# Altium integrated library TI Interface Line Transceiver.IntLib: 631 symbols (part 12 of 17)
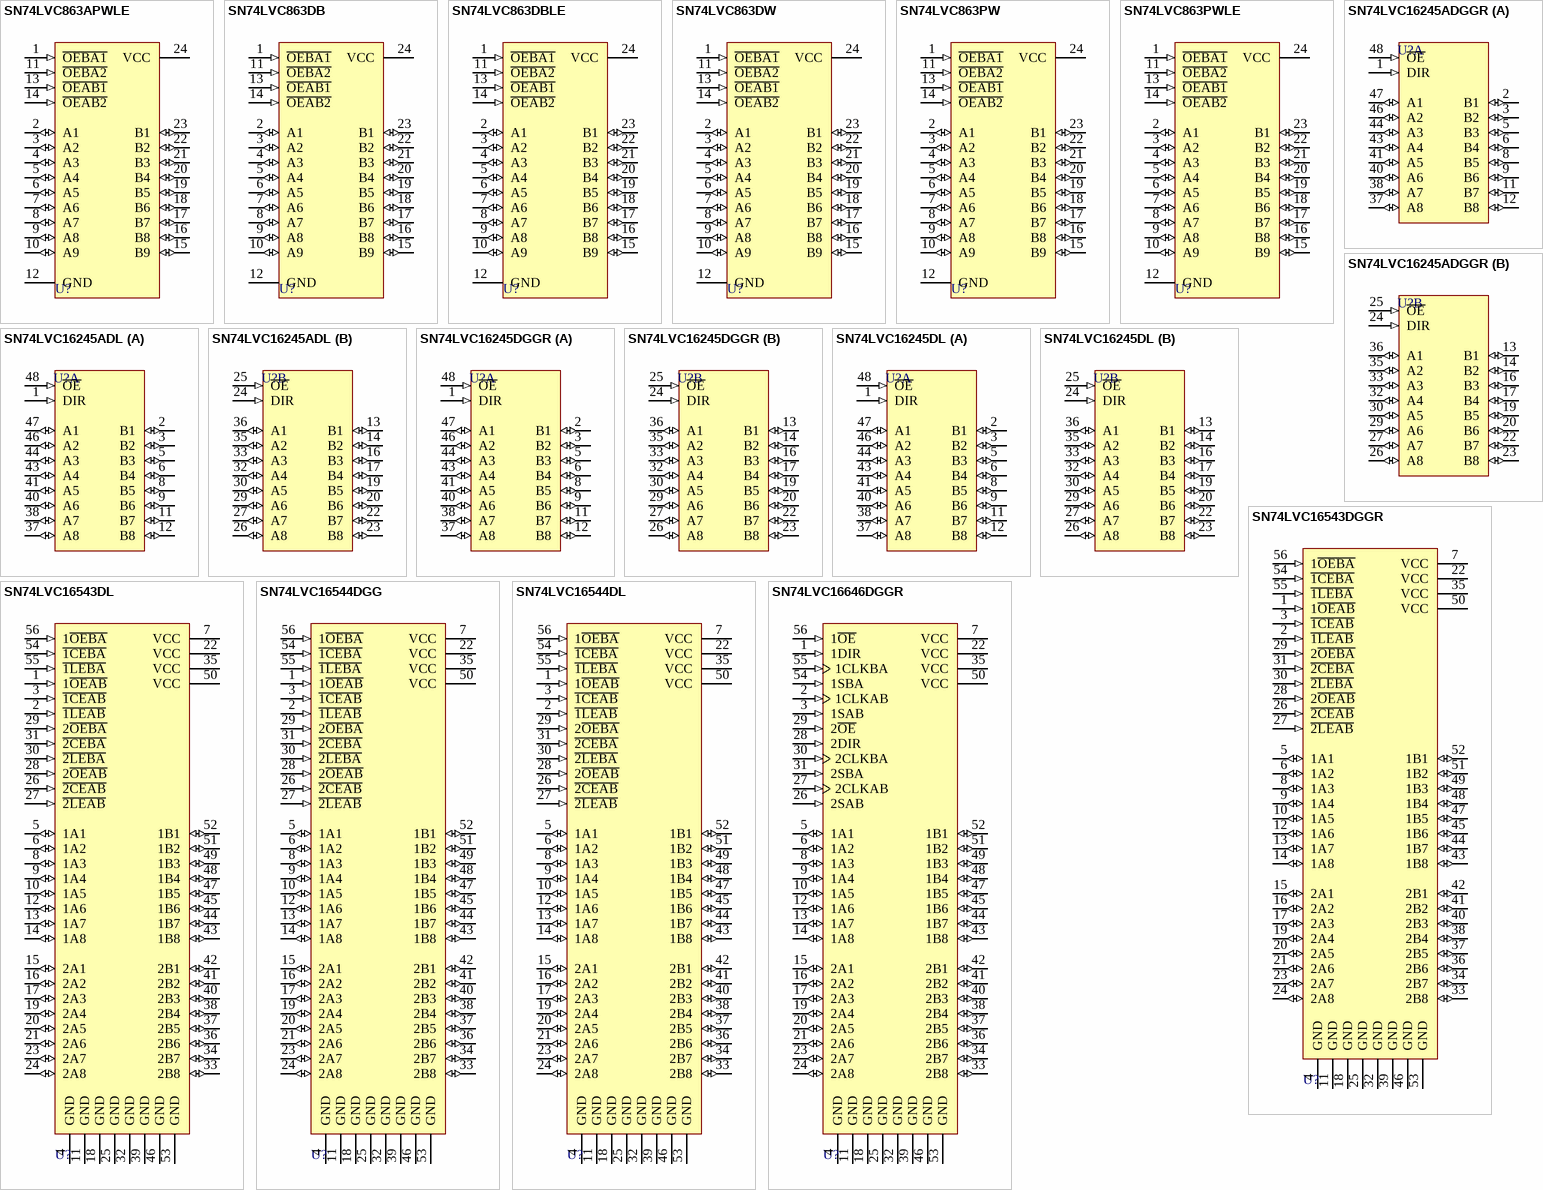
[diagram p50: symbols SN74LVC863APWLE to SN74LVC16646DGGR]

## SN74LVC16245ADGGR
designator U?
16-Bit Bus Transceiver with 3-State Outputs; Published: 8-Jun-2000; LatestRevisionDate: 04-Mar-2005; LatestRevisionNote: Stylized 3D Model Added.; DatasheetVersion: Jun-1998; PackageVersion: Jan-1998; PackageReference: DGG048; Publisher: Altium Limited; PackageDescription: Shrink Small Outline; 48 Leads; Body Width 6.1 mm; Pitch 0.5 mm; ComponentLink1Description: Manufacturer Link; ComponentLink1URL: http://www.ti.com/; ComponentLink2Description: Datasheet; ComponentLink2URL: http://www-s.ti.com/sc/ds/sn74lvc16245a.pdf
footprint DGG048 (Shrink Small Outline; 48 Leads; Body Width 6.1 mm; Pitch 0.5 mm)
3D model DGG048 (Shrink Small Outline; 48 Leads; Body Width 6.1 mm; Pitch 0.5 mm)
signal-integrity model SN74LVC16245ADGGR
pins on every part: 4 GND (power) hidden to GND, 7 VCC (power) hidden to VCC, 10 GND (power) hidden to GND, 15 GND (power) hidden to GND, 18 VCC (power) hidden to VCC, 21 GND (power) hidden to GND, 28 GND (power) hidden to GND, 31 VCC (power) hidden to VCC, 34 GND (power) hidden to GND, 39 GND (power) hidden to GND, 42 VCC (power) hidden to VCC, 45 GND (power) hidden to GND
part A pins: 1 DIR (in), 2 B1 (io), 3 B2 (io), 5 B3 (io), 6 B4 (io), 8 B5 (io), 9 B6 (io), 11 B7 (io), 12 B8 (io), 37 A8 (io), 38 A7 (io), 40 A6 (io), 41 A5 (io), 43 A4 (io), 44 A3 (io), 46 A2 (io), 47 A1 (io), 48 ~{OE} (in)
part B pins: 13 B1 (io), 14 B2 (io), 16 B3 (io), 17 B4 (io), 19 B5 (io), 20 B6 (io), 22 B7 (io), 23 B8 (io), 24 DIR (in), 25 ~{OE} (in), 26 A8 (io), 27 A7 (io), 29 A6 (io), 30 A5 (io), 32 A4 (io), 33 A3 (io), 35 A2 (io), 36 A1 (io)

## SN74LVC16245ADL
designator U?
16-Bit Bus Transceiver with 3-State Outputs; Published: 8-Jun-2000; LatestRevisionDate: 04-Mar-2005; LatestRevisionNote: Stylized 3D Model Added.; DatasheetVersion: Jun-1998; PackageVersion: Dec-2001; PackageReference: DL048; Publisher: Altium Limited; PackageDescription: SSOP; 48 Leads; Body Width 7.5 mm; Pitch 0.635 mm; Code_JEDEC: MO-118-AA; Code_IPC: SSO48; ComponentLink1Description: Manufacturer Link; ComponentLink1URL: http://www.ti.com/; ComponentLink2Description: Datasheet; ComponentLink2URL: http://www-s.ti.com/sc/ds/sn74lvc16245a.pdf
footprint DL048 (SSOP; 48 Leads; Body Width 7.5 mm; Pitch 0.635 mm)
3D model DL048 (SSOP; 48 Leads; Body Width 7.5 mm; Pitch 0.635 mm)
signal-integrity model SN74LVC16245ADL
pins on every part: 4 GND (power) hidden to GND, 7 VCC (power) hidden to VCC, 10 GND (power) hidden to GND, 15 GND (power) hidden to GND, 18 VCC (power) hidden to VCC, 21 GND (power) hidden to GND, 28 GND (power) hidden to GND, 31 VCC (power) hidden to VCC, 34 GND (power) hidden to GND, 39 GND (power) hidden to GND, 42 VCC (power) hidden to VCC, 45 GND (power) hidden to GND
part A pins: 1 DIR (in), 2 B1 (io), 3 B2 (io), 5 B3 (io), 6 B4 (io), 8 B5 (io), 9 B6 (io), 11 B7 (io), 12 B8 (io), 37 A8 (io), 38 A7 (io), 40 A6 (io), 41 A5 (io), 43 A4 (io), 44 A3 (io), 46 A2 (io), 47 A1 (io), 48 ~{OE} (in)
part B pins: 13 B1 (io), 14 B2 (io), 16 B3 (io), 17 B4 (io), 19 B5 (io), 20 B6 (io), 22 B7 (io), 23 B8 (io), 24 DIR (in), 25 ~{OE} (in), 26 A8 (io), 27 A7 (io), 29 A6 (io), 30 A5 (io), 32 A4 (io), 33 A3 (io), 35 A2 (io), 36 A1 (io)

## SN74LVC16245DGGR
designator U?
16-Bit Bus Transceiver with 3-State Outputs; Published: 8-Jun-2000; LatestRevisionDate: 04-Mar-2005; LatestRevisionNote: Stylized 3D Model Added.; DatasheetVersion: Dec-1994; PackageVersion: Jan-1998; PackageReference: DGG048; Publisher: Altium Limited; PackageDescription: Shrink Small Outline; 48 Leads; Body Width 6.1 mm; Pitch 0.5 mm; ComponentLink1Description: Manufacturer Link; ComponentLink1URL: http://www.ti.com/; ComponentLink2Description: Datasheet; ComponentLink2URL: http://www-s.ti.com/sc/ds/sn74lvc16245.pdf
footprint DGG048 (Shrink Small Outline; 48 Leads; Body Width 6.1 mm; Pitch 0.5 mm)
3D model DGG048 (Shrink Small Outline; 48 Leads; Body Width 6.1 mm; Pitch 0.5 mm)
signal-integrity model SN74LVC16245DGGR
pins on every part: 4 GND (power) hidden to GND, 7 VCC (power) hidden to VCC, 10 GND (power) hidden to GND, 15 GND (power) hidden to GND, 18 VCC (power) hidden to VCC, 21 GND (power) hidden to GND, 28 GND (power) hidden to GND, 31 VCC (power) hidden to VCC, 34 GND (power) hidden to GND, 39 GND (power) hidden to GND, 42 VCC (power) hidden to VCC, 45 GND (power) hidden to GND
part A pins: 1 DIR (in), 2 B1 (io), 3 B2 (io), 5 B3 (io), 6 B4 (io), 8 B5 (io), 9 B6 (io), 11 B7 (io), 12 B8 (io), 37 A8 (io), 38 A7 (io), 40 A6 (io), 41 A5 (io), 43 A4 (io), 44 A3 (io), 46 A2 (io), 47 A1 (io), 48 ~{OE} (in)
part B pins: 13 B1 (io), 14 B2 (io), 16 B3 (io), 17 B4 (io), 19 B5 (io), 20 B6 (io), 22 B7 (io), 23 B8 (io), 24 DIR (in), 25 ~{OE} (in), 26 A8 (io), 27 A7 (io), 29 A6 (io), 30 A5 (io), 32 A4 (io), 33 A3 (io), 35 A2 (io), 36 A1 (io)

## SN74LVC16245DL
designator U?
16-Bit Bus Transceiver with 3-State Outputs; ComponentAvailability: Obsolete; Published: 8-Jun-2000; LatestRevisionDate: 04-Mar-2005; LatestRevisionNote: Stylized 3D Model Added.; DatasheetVersion: Dec-1994; PackageVersion: Dec-2001; PackageReference: DL048; Publisher: Altium Limited; PackageDescription: SSOP; 48 Leads; Body Width 7.5 mm; Pitch 0.635 mm; Code_JEDEC: MO-118-AA; Code_IPC: SSO48; ComponentLink1Description: Manufacturer Link; ComponentLink1URL: http://www.ti.com/; ComponentLink2Description: Datasheet; ComponentLink2URL: http://www-s.ti.com/sc/ds/sn74lvc16245.pdf
footprint DL048 (SSOP; 48 Leads; Body Width 7.5 mm; Pitch 0.635 mm)
3D model DL048 (SSOP; 48 Leads; Body Width 7.5 mm; Pitch 0.635 mm)
signal-integrity model SN74LVC16245DL
pins on every part: 4 GND (power) hidden to GND, 7 VCC (power) hidden to VCC, 10 GND (power) hidden to GND, 15 GND (power) hidden to GND, 18 VCC (power) hidden to VCC, 21 GND (power) hidden to GND, 28 GND (power) hidden to GND, 31 VCC (power) hidden to VCC, 34 GND (power) hidden to GND, 39 GND (power) hidden to GND, 42 VCC (power) hidden to VCC, 45 GND (power) hidden to GND
part A pins: 1 DIR (in), 2 B1 (io), 3 B2 (io), 5 B3 (io), 6 B4 (io), 8 B5 (io), 9 B6 (io), 11 B7 (io), 12 B8 (io), 37 A8 (io), 38 A7 (io), 40 A6 (io), 41 A5 (io), 43 A4 (io), 44 A3 (io), 46 A2 (io), 47 A1 (io), 48 ~{OE} (in)
part B pins: 13 B1 (io), 14 B2 (io), 16 B3 (io), 17 B4 (io), 19 B5 (io), 20 B6 (io), 22 B7 (io), 23 B8 (io), 24 DIR (in), 25 ~{OE} (in), 26 A8 (io), 27 A7 (io), 29 A6 (io), 30 A5 (io), 32 A4 (io), 33 A3 (io), 35 A2 (io), 36 A1 (io)

## SN74LVC16543DGGR
designator U?
16-Bit Registered Transceiver with 3-State Outputs; ComponentAvailability: Obsolete; Published: 8-Jun-2000; LatestRevisionDate: 04-Mar-2005; LatestRevisionNote: Stylized 3D Model Added.; DatasheetVersion: Oct-1995; PackageVersion: Jan-1998; PackageReference: DGG056; Publisher: Altium Limited; PackageDescription: Shrink Small Outline; 56 Leads; Body Width 6.1 mm; Pitch 0.5 mm; ComponentLink1Description: Manufacturer Link; ComponentLink1URL: http://www.ti.com/; ComponentLink2Description: Discontinuation Notice; ComponentLink2URL: http://focus.ti.com/docs/prod/folders/print/sn74lvc16543.html
footprint DGG056 (Shrink Small Outline; 56 Leads; Body Width 6.1 mm; Pitch 0.5 mm)
3D model DGG056 (Shrink Small Outline; 56 Leads; Body Width 6.1 mm; Pitch 0.5 mm)
signal-integrity model SN74LVC16543DGGR
pins: 1 1~{OEAB} (in), 2 ~{1LEAB} (in), 3 ~{1CEAB} (in), 4 GND (power), 5 1A1 (io), 6 1A2 (io), 7 VCC (power), 8 1A3 (io), 9 1A4 (io), 10 1A5 (io), 11 GND (power), 12 1A6 (io), 13 1A7 (io), 14 1A8 (io), 15 2A1 (io), 16 2A2 (io), 17 2A3 (io), 18 GND (power), 19 2A4 (io), 20 2A5 (io), 21 2A6 (io), 22 VCC (power), 23 2A7 (io), 24 2A8 (io), 25 GND (power), 26 ~{2CEAB} (in), 27 ~{2LEAB} (in), 28 2~{OEAB} (in), 29 2~{OEBA} (in), 30 ~{2LEBA} (in), 31 ~{2CEBA} (in), 32 GND (power), 33 2B8 (io), 34 2B7 (io), 35 VCC (power), 36 2B6 (io), 37 2B5 (io), 38 2B4 (io), 39 GND (power), 40 2B3 (io), 41 2B2 (io), 42 2B1 (io), 43 1B8 (io), 44 1B7 (io), 45 1B6 (io), 46 GND (power), 47 1B5 (io), 48 1B4 (io), 49 1B3 (io), 50 VCC (power), 51 1B2 (io), 52 1B1 (io), 53 GND (power), 54 ~{1CEBA} (in), 55 ~{1LEBA} (in), 56 1~{OEBA} (in)

## SN74LVC16543DL
designator U?
16-Bit Registered Transceiver with 3-State Outputs; ComponentAvailability: Obsolete; Published: 8-Jun-2000; LatestRevisionDate: 04-Mar-2005; LatestRevisionNote: Stylized 3D Model Added.; DatasheetVersion: Oct-1995; PackageVersion: Dec-2001; PackageReference: DL056; Publisher: Altium Limited; PackageDescription: SSOP; 56 Leads; Body Width 7.5 mm; Pitch 0.635 mm; Code_JEDEC: MO-118-AB; Code_IPC: SSO56; ComponentLink1Description: Manufacturer Link; ComponentLink1URL: http://www.ti.com/; ComponentLink2Description: Discontinuation Notice; ComponentLink2URL: http://focus.ti.com/docs/prod/folders/print/sn74lvc16543.html
footprint DL056 (SSOP; 56 Leads; Body Width 7.5 mm; Pitch 0.635 mm)
3D model DL056 (SSOP; 56 Leads; Body Width 7.5 mm; Pitch 0.635 mm)
signal-integrity model SN74LVC16543DL
pins: 1 1~{OEAB} (in), 2 ~{1LEAB} (in), 3 ~{1CEAB} (in), 4 GND (power), 5 1A1 (io), 6 1A2 (io), 7 VCC (power), 8 1A3 (io), 9 1A4 (io), 10 1A5 (io), 11 GND (power), 12 1A6 (io), 13 1A7 (io), 14 1A8 (io), 15 2A1 (io), 16 2A2 (io), 17 2A3 (io), 18 GND (power), 19 2A4 (io), 20 2A5 (io), 21 2A6 (io), 22 VCC (power), 23 2A7 (io), 24 2A8 (io), 25 GND (power), 26 ~{2CEAB} (in), 27 ~{2LEAB} (in), 28 2~{OEAB} (in), 29 2~{OEBA} (in), 30 ~{2LEBA} (in), 31 ~{2CEBA} (in), 32 GND (power), 33 2B8 (io), 34 2B7 (io), 35 VCC (power), 36 2B6 (io), 37 2B5 (io), 38 2B4 (io), 39 GND (power), 40 2B3 (io), 41 2B2 (io), 42 2B1 (io), 43 1B8 (io), 44 1B7 (io), 45 1B6 (io), 46 GND (power), 47 1B5 (io), 48 1B4 (io), 49 1B3 (io), 50 VCC (power), 51 1B2 (io), 52 1B1 (io), 53 GND (power), 54 ~{1CEBA} (in), 55 ~{1LEBA} (in), 56 1~{OEBA} (in)

## SN74LVC16544DGG
designator U?
16-Bit Registered Transceiver with 3-State Outputs; Published: 8-Jun-2000; LatestRevisionDate: 04-Mar-2005; LatestRevisionNote: Stylized 3D Model Added.; DatasheetVersion: Mar-1994; PackageVersion: Jan-1998; PackageReference: DGG056; Publisher: Altium Limited; PackageDescription: Shrink Small Outline; 56 Leads; Body Width 6.1 mm; Pitch 0.5 mm; ComponentLink1Description: Manufacturer Link; ComponentLink1URL: http://www.ti.com/
footprint DGG056 (Shrink Small Outline; 56 Leads; Body Width 6.1 mm; Pitch 0.5 mm)
3D model DGG056 (Shrink Small Outline; 56 Leads; Body Width 6.1 mm; Pitch 0.5 mm)
signal-integrity model SN74LVC16544DGG
pins: 1 1~{OEAB} (in), 2 ~{1LEAB} (in), 3 ~{1CEAB} (in), 4 GND (power), 5 1A1 (io), 6 1A2 (io), 7 VCC (power), 8 1A3 (io), 9 1A4 (io), 10 1A5 (io), 11 GND (power), 12 1A6 (io), 13 1A7 (io), 14 1A8 (io), 15 2A1 (io), 16 2A2 (io), 17 2A3 (io), 18 GND (power), 19 2A4 (io), 20 2A5 (io), 21 2A6 (io), 22 VCC (power), 23 2A7 (io), 24 2A8 (io), 25 GND (power), 26 ~{2CEAB} (in), 27 ~{2LEAB} (in), 28 2~{OEAB} (in), 29 2~{OEBA} (in), 30 ~{2LEBA} (in), 31 ~{2CEBA} (in), 32 GND (power), 33 2B8 (io), 34 2B7 (io), 35 VCC (power), 36 2B6 (io), 37 2B5 (io), 38 2B4 (io), 39 GND (power), 40 2B3 (io), 41 2B2 (io), 42 2B1 (io), 43 1B8 (io), 44 1B7 (io), 45 1B6 (io), 46 GND (power), 47 1B5 (io), 48 1B4 (io), 49 1B3 (io), 50 VCC (power), 51 1B2 (io), 52 1B1 (io), 53 GND (power), 54 ~{1CEBA} (in), 55 ~{1LEBA} (in), 56 1~{OEBA} (in)

## SN74LVC16544DL
designator U?
16-Bit Registered Transceiver with 3-State Outputs; Published: 8-Jun-2000; LatestRevisionDate: 04-Mar-2005; LatestRevisionNote: Stylized 3D Model Added.; DatasheetVersion: Mar-1994; PackageVersion: Dec-2001; PackageReference: DL056; Publisher: Altium Limited; PackageDescription: SSOP; 56 Leads; Body Width 7.5 mm; Pitch 0.635 mm; Code_JEDEC: MO-118-AB; Code_IPC: SSO56; ComponentLink1Description: Manufacturer Link; ComponentLink1URL: http://www.ti.com/
footprint DL056 (SSOP; 56 Leads; Body Width 7.5 mm; Pitch 0.635 mm)
3D model DL056 (SSOP; 56 Leads; Body Width 7.5 mm; Pitch 0.635 mm)
signal-integrity model SN74LVC16544DL
pins: 1 1~{OEAB} (in), 2 ~{1LEAB} (in), 3 ~{1CEAB} (in), 4 GND (power), 5 1A1 (io), 6 1A2 (io), 7 VCC (power), 8 1A3 (io), 9 1A4 (io), 10 1A5 (io), 11 GND (power), 12 1A6 (io), 13 1A7 (io), 14 1A8 (io), 15 2A1 (io), 16 2A2 (io), 17 2A3 (io), 18 GND (power), 19 2A4 (io), 20 2A5 (io), 21 2A6 (io), 22 VCC (power), 23 2A7 (io), 24 2A8 (io), 25 GND (power), 26 ~{2CEAB} (in), 27 ~{2LEAB} (in), 28 2~{OEAB} (in), 29 2~{OEBA} (in), 30 ~{2LEBA} (in), 31 ~{2CEBA} (in), 32 GND (power), 33 2B8 (io), 34 2B7 (io), 35 VCC (power), 36 2B6 (io), 37 2B5 (io), 38 2B4 (io), 39 GND (power), 40 2B3 (io), 41 2B2 (io), 42 2B1 (io), 43 1B8 (io), 44 1B7 (io), 45 1B6 (io), 46 GND (power), 47 1B5 (io), 48 1B4 (io), 49 1B3 (io), 50 VCC (power), 51 1B2 (io), 52 1B1 (io), 53 GND (power), 54 ~{1CEBA} (in), 55 ~{1LEBA} (in), 56 1~{OEBA} (in)

## SN74LVC16646DGGR
designator U?
16-Bit Bus Transceiver and Register with 3-State Outputs; Published: 8-Jun-2000; LatestRevisionDate: 04-Mar-2005; LatestRevisionNote: Stylized 3D Model Added.; DatasheetVersion: Jul-1995; PackageVersion: Jan-1998; PackageReference: DGG056; Publisher: Altium Limited; PackageDescription: Shrink Small Outline; 56 Leads; Body Width 6.1 mm; Pitch 0.5 mm; ComponentLink1Description: Manufacturer Link; ComponentLink1URL: http://www.ti.com/
footprint DGG056 (Shrink Small Outline; 56 Leads; Body Width 6.1 mm; Pitch 0.5 mm)
3D model DGG056 (Shrink Small Outline; 56 Leads; Body Width 6.1 mm; Pitch 0.5 mm)
signal-integrity model SN74LVC16646DGGR
pins: 1 1DIR (in), 2 1CLKAB (in), 3 1SAB (in), 4 GND (power), 5 1A1 (io), 6 1A2 (io), 7 VCC (power), 8 1A3 (io), 9 1A4 (io), 10 1A5 (io), 11 GND (power), 12 1A6 (io), 13 1A7 (io), 14 1A8 (io), 15 2A1 (io), 16 2A2 (io), 17 2A3 (io), 18 GND (power), 19 2A4 (io), 20 2A5 (io), 21 2A6 (io), 22 VCC (power), 23 2A7 (io), 24 2A8 (io), 25 GND (power), 26 2SAB (in), 27 2CLKAB (in), 28 2DIR (in), 29 2~{OE} (in), 30 2CLKBA (in), 31 2SBA (in), 32 GND (power), 33 2B8 (io), 34 2B7 (io), 35 VCC (power), 36 2B6 (io), 37 2B5 (io), 38 2B4 (io), 39 GND (power), 40 2B3 (io), 41 2B2 (io), 42 2B1 (io), 43 1B8 (io), 44 1B7 (io), 45 1B6 (io), 46 GND (power), 47 1B5 (io), 48 1B4 (io), 49 1B3 (io), 50 VCC (power), 51 1B2 (io), 52 1B1 (io), 53 GND (power), 54 1SBA (in), 55 1CLKBA (in), 56 1~{OE} (in)

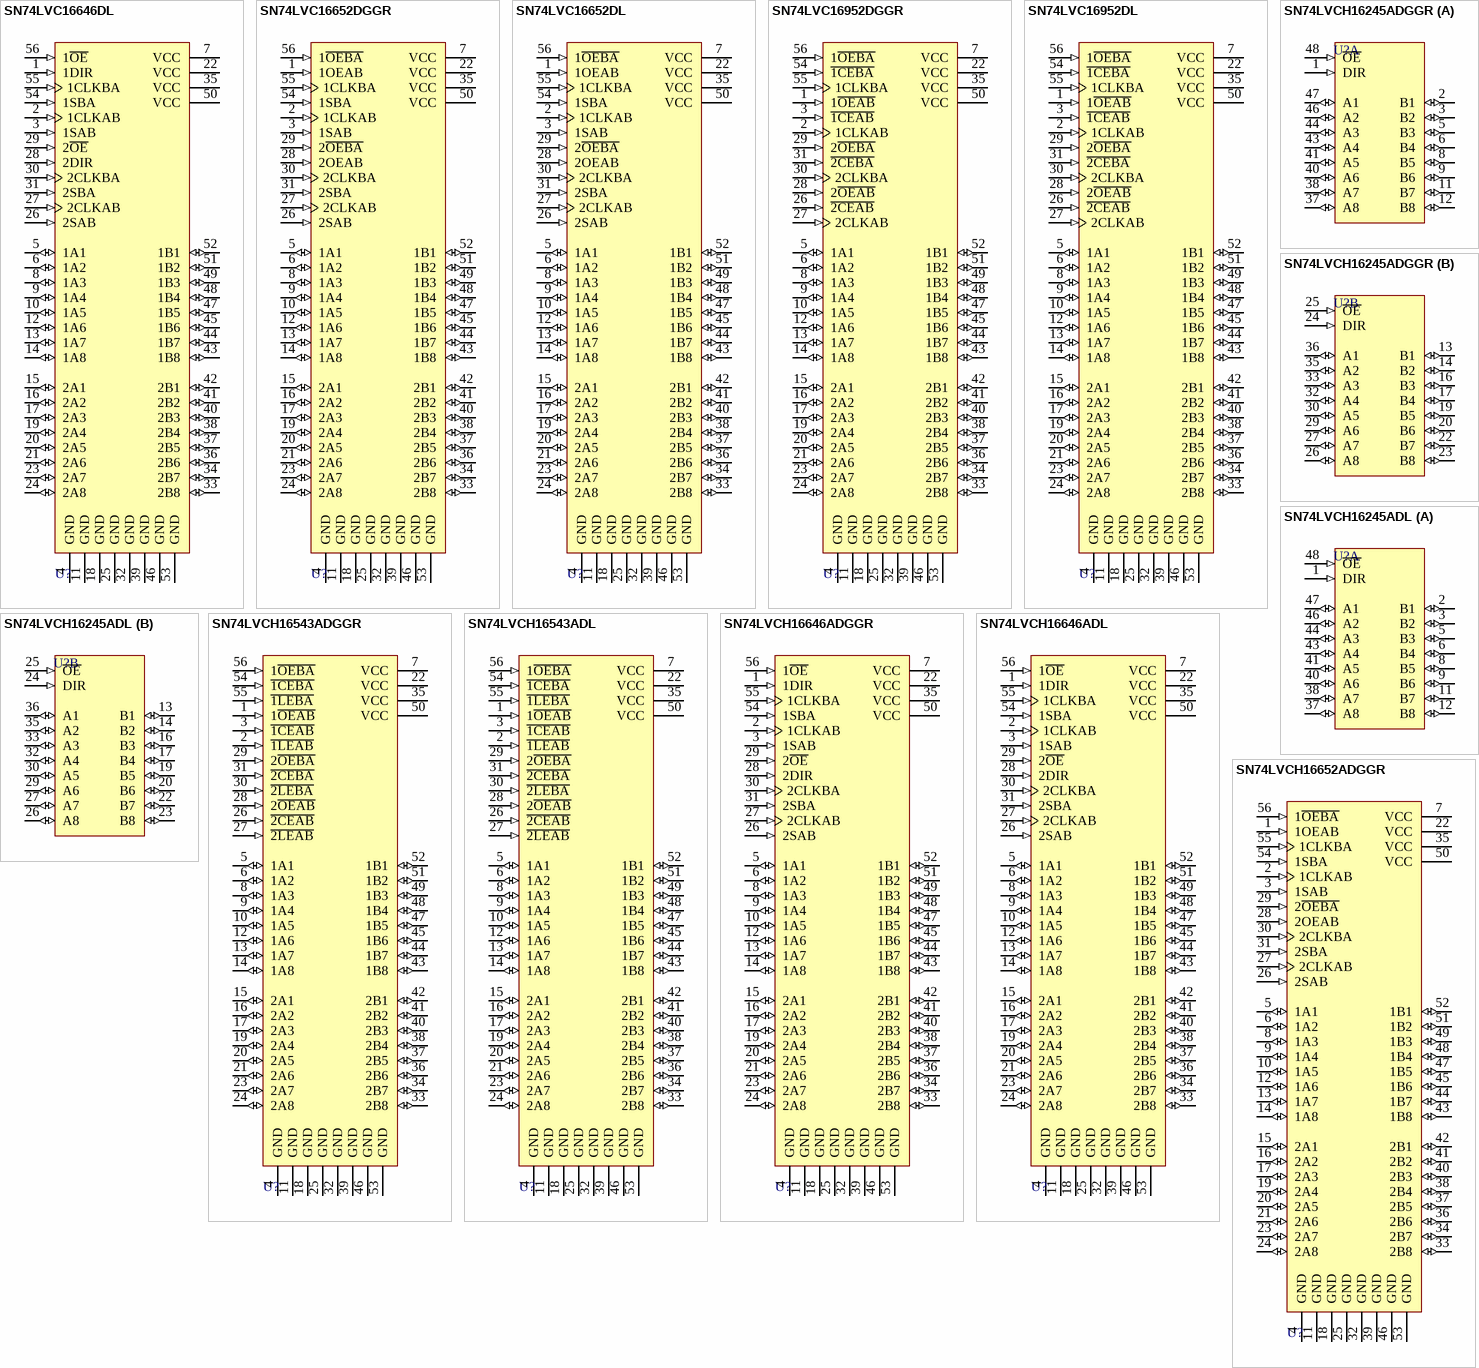
[diagram p26: symbols SN74LVC16646DL to SN74LVCH16652ADGGR]

## SN74LVC16646DL
designator U?
16-Bit Bus Transceiver and Register with 3-State Outputs; ComponentAvailability: Obsolete; Published: 8-Jun-2000; LatestRevisionDate: 04-Mar-2005; LatestRevisionNote: Stylized 3D Model Added.; DatasheetVersion: Jul-1995; PackageVersion: Dec-2001; PackageReference: DL056; Publisher: Altium Limited; PackageDescription: SSOP; 56 Leads; Body Width 7.5 mm; Pitch 0.635 mm; Code_JEDEC: MO-118-AB; Code_IPC: SSO56; ComponentLink1Description: Manufacturer Link; ComponentLink1URL: http://www.ti.com/; ComponentLink2Description: Discontinuation Notice; ComponentLink2URL: http://focus.ti.com/docs/prod/folders/print/sn74lvc16646.html
footprint DL056 (SSOP; 56 Leads; Body Width 7.5 mm; Pitch 0.635 mm)
3D model DL056 (SSOP; 56 Leads; Body Width 7.5 mm; Pitch 0.635 mm)
signal-integrity model SN74LVC16646DL
pins: 1 1DIR (in), 2 1CLKAB (in), 3 1SAB (in), 4 GND (power), 5 1A1 (io), 6 1A2 (io), 7 VCC (power), 8 1A3 (io), 9 1A4 (io), 10 1A5 (io), 11 GND (power), 12 1A6 (io), 13 1A7 (io), 14 1A8 (io), 15 2A1 (io), 16 2A2 (io), 17 2A3 (io), 18 GND (power), 19 2A4 (io), 20 2A5 (io), 21 2A6 (io), 22 VCC (power), 23 2A7 (io), 24 2A8 (io), 25 GND (power), 26 2SAB (in), 27 2CLKAB (in), 28 2DIR (in), 29 2~{OE} (in), 30 2CLKBA (in), 31 2SBA (in), 32 GND (power), 33 2B8 (io), 34 2B7 (io), 35 VCC (power), 36 2B6 (io), 37 2B5 (io), 38 2B4 (io), 39 GND (power), 40 2B3 (io), 41 2B2 (io), 42 2B1 (io), 43 1B8 (io), 44 1B7 (io), 45 1B6 (io), 46 GND (power), 47 1B5 (io), 48 1B4 (io), 49 1B3 (io), 50 VCC (power), 51 1B2 (io), 52 1B1 (io), 53 GND (power), 54 1SBA (in), 55 1CLKBA (in), 56 1~{OE} (in)

## SN74LVC16652DGGR
designator U?
16-Bit Bus Transceiver and Register with 3-State Outputs; Published: 8-Jun-2000; LatestRevisionDate: 04-Mar-2005; LatestRevisionNote: Stylized 3D Model Added.; DatasheetVersion: Jul-1995; PackageVersion: Jan-1998; PackageReference: DGG056; Publisher: Altium Limited; PackageDescription: Shrink Small Outline; 56 Leads; Body Width 6.1 mm; Pitch 0.5 mm; ComponentLink1Description: Manufacturer Link; ComponentLink1URL: http://www.ti.com/
footprint DGG056 (Shrink Small Outline; 56 Leads; Body Width 6.1 mm; Pitch 0.5 mm)
3D model DGG056 (Shrink Small Outline; 56 Leads; Body Width 6.1 mm; Pitch 0.5 mm)
signal-integrity model SN74LVC16652DGGR
pins: 1 1OEAB (in), 2 1CLKAB (in), 3 1SAB (in), 4 GND (power), 5 1A1 (io), 6 1A2 (io), 7 VCC (power), 8 1A3 (io), 9 1A4 (io), 10 1A5 (io), 11 GND (power), 12 1A6 (io), 13 1A7 (io), 14 1A8 (io), 15 2A1 (io), 16 2A2 (io), 17 2A3 (io), 18 GND (power), 19 2A4 (io), 20 2A5 (io), 21 2A6 (io), 22 VCC (power), 23 2A7 (io), 24 2A8 (io), 25 GND (power), 26 2SAB (in), 27 2CLKAB (in), 28 2OEAB (in), 29 2~{OEBA} (in), 30 2CLKBA (in), 31 2SBA (in), 32 GND (power), 33 2B8 (io), 34 2B7 (io), 35 VCC (power), 36 2B6 (io), 37 2B5 (io), 38 2B4 (io), 39 GND (power), 40 2B3 (io), 41 2B2 (io), 42 2B1 (io), 43 1B8 (io), 44 1B7 (io), 45 1B6 (io), 46 GND (power), 47 1B5 (io), 48 1B4 (io), 49 1B3 (io), 50 VCC (power), 51 1B2 (io), 52 1B1 (io), 53 GND (power), 54 1SBA (in), 55 1CLKBA (in), 56 1~{OEBA} (in)

## SN74LVC16652DL
designator U?
16-Bit Bus Transceiver and Register with 3-State Outputs; ComponentAvailability: Obsolete; Published: 8-Jun-2000; LatestRevisionDate: 04-Mar-2005; LatestRevisionNote: Stylized 3D Model Added.; DatasheetVersion: Jul-1995; PackageVersion: Dec-2001; PackageReference: DL056; Publisher: Altium Limited; PackageDescription: SSOP; 56 Leads; Body Width 7.5 mm; Pitch 0.635 mm; Code_JEDEC: MO-118-AB; Code_IPC: SSO56; ComponentLink1Description: Manufacturer Link; ComponentLink1URL: http://www.ti.com/; ComponentLink2Description: Discontinuation Notice; ComponentLink2URL: http://focus.ti.com/docs/prod/folders/print/sn74lvc16652.html
footprint DL056 (SSOP; 56 Leads; Body Width 7.5 mm; Pitch 0.635 mm)
3D model DL056 (SSOP; 56 Leads; Body Width 7.5 mm; Pitch 0.635 mm)
signal-integrity model SN74LVC16652DL
pins: 1 1OEAB (in), 2 1CLKAB (in), 3 1SAB (in), 4 GND (power), 5 1A1 (io), 6 1A2 (io), 7 VCC (power), 8 1A3 (io), 9 1A4 (io), 10 1A5 (io), 11 GND (power), 12 1A6 (io), 13 1A7 (io), 14 1A8 (io), 15 2A1 (io), 16 2A2 (io), 17 2A3 (io), 18 GND (power), 19 2A4 (io), 20 2A5 (io), 21 2A6 (io), 22 VCC (power), 23 2A7 (io), 24 2A8 (io), 25 GND (power), 26 2SAB (in), 27 2CLKAB (in), 28 2OEAB (in), 29 2~{OEBA} (in), 30 2CLKBA (in), 31 2SBA (in), 32 GND (power), 33 2B8 (io), 34 2B7 (io), 35 VCC (power), 36 2B6 (io), 37 2B5 (io), 38 2B4 (io), 39 GND (power), 40 2B3 (io), 41 2B2 (io), 42 2B1 (io), 43 1B8 (io), 44 1B7 (io), 45 1B6 (io), 46 GND (power), 47 1B5 (io), 48 1B4 (io), 49 1B3 (io), 50 VCC (power), 51 1B2 (io), 52 1B1 (io), 53 GND (power), 54 1SBA (in), 55 1CLKBA (in), 56 1~{OEBA} (in)

## SN74LVC16952DGGR
designator U?
16-Bit Registered Transceiver with 3-State Outputs; Published: 8-Jun-2000; LatestRevisionDate: 04-Mar-2005; LatestRevisionNote: Stylized 3D Model Added.; DatasheetVersion: Jul-1995; PackageVersion: Jan-1998; PackageReference: DGG056; Publisher: Altium Limited; PackageDescription: Shrink Small Outline; 56 Leads; Body Width 6.1 mm; Pitch 0.5 mm; ComponentLink1Description: Manufacturer Link; ComponentLink1URL: http://www.ti.com/
footprint DGG056 (Shrink Small Outline; 56 Leads; Body Width 6.1 mm; Pitch 0.5 mm)
3D model DGG056 (Shrink Small Outline; 56 Leads; Body Width 6.1 mm; Pitch 0.5 mm)
signal-integrity model SN74LVC16952DGGR
pins: 1 1~{OEAB} (in), 2 1CLKAB (in), 3 ~{1CEAB} (in), 4 GND (power), 5 1A1 (io), 6 1A2 (io), 7 VCC (power), 8 1A3 (io), 9 1A4 (io), 10 1A5 (io), 11 GND (power), 12 1A6 (io), 13 1A7 (io), 14 1A8 (io), 15 2A1 (io), 16 2A2 (io), 17 2A3 (io), 18 GND (power), 19 2A4 (io), 20 2A5 (io), 21 2A6 (io), 22 VCC (power), 23 2A7 (io), 24 2A8 (io), 25 GND (power), 26 ~{2CEAB} (in), 27 2CLKAB (in), 28 2~{OEAB} (in), 29 2~{OEBA} (in), 30 2CLKBA (in), 31 ~{2CEBA} (in), 32 GND (power), 33 2B8 (io), 34 2B7 (io), 35 VCC (power), 36 2B6 (io), 37 2B5 (io), 38 2B4 (io), 39 GND (power), 40 2B3 (io), 41 2B2 (io), 42 2B1 (io), 43 1B8 (io), 44 1B7 (io), 45 1B6 (io), 46 GND (power), 47 1B5 (io), 48 1B4 (io), 49 1B3 (io), 50 VCC (power), 51 1B2 (io), 52 1B1 (io), 53 GND (power), 54 ~{1CEBA} (in), 55 1CLKBA (in), 56 1~{OEBA} (in)

## SN74LVC16952DL
designator U?
16-Bit Registered Transceiver with 3-State Outputs; Published: 8-Jun-2000; LatestRevisionDate: 04-Mar-2005; LatestRevisionNote: Stylized 3D Model Added.; DatasheetVersion: Jul-1995; PackageVersion: Dec-2001; PackageReference: DL056; Publisher: Altium Limited; PackageDescription: SSOP; 56 Leads; Body Width 7.5 mm; Pitch 0.635 mm; Code_JEDEC: MO-118-AB; Code_IPC: SSO56; ComponentLink1Description: Manufacturer Link; ComponentLink1URL: http://www.ti.com/
footprint DL056 (SSOP; 56 Leads; Body Width 7.5 mm; Pitch 0.635 mm)
3D model DL056 (SSOP; 56 Leads; Body Width 7.5 mm; Pitch 0.635 mm)
signal-integrity model SN74LVC16952DL
pins: 1 1~{OEAB} (in), 2 1CLKAB (in), 3 ~{1CEAB} (in), 4 GND (power), 5 1A1 (io), 6 1A2 (io), 7 VCC (power), 8 1A3 (io), 9 1A4 (io), 10 1A5 (io), 11 GND (power), 12 1A6 (io), 13 1A7 (io), 14 1A8 (io), 15 2A1 (io), 16 2A2 (io), 17 2A3 (io), 18 GND (power), 19 2A4 (io), 20 2A5 (io), 21 2A6 (io), 22 VCC (power), 23 2A7 (io), 24 2A8 (io), 25 GND (power), 26 ~{2CEAB} (in), 27 2CLKAB (in), 28 2~{OEAB} (in), 29 2~{OEBA} (in), 30 2CLKBA (in), 31 ~{2CEBA} (in), 32 GND (power), 33 2B8 (io), 34 2B7 (io), 35 VCC (power), 36 2B6 (io), 37 2B5 (io), 38 2B4 (io), 39 GND (power), 40 2B3 (io), 41 2B2 (io), 42 2B1 (io), 43 1B8 (io), 44 1B7 (io), 45 1B6 (io), 46 GND (power), 47 1B5 (io), 48 1B4 (io), 49 1B3 (io), 50 VCC (power), 51 1B2 (io), 52 1B1 (io), 53 GND (power), 54 ~{1CEBA} (in), 55 1CLKBA (in), 56 1~{OEBA} (in)

## SN74LVCH16245ADGGR
designator U?
16-Bit Bus Transceiver with 3-State Outputs; Published: 8-Jun-2000; LatestRevisionDate: 04-Mar-2005; LatestRevisionNote: Stylized 3D Model Added.; DatasheetVersion: Jun-1998; PackageVersion: Jan-1998; PackageReference: DGG048; Publisher: Altium Limited; PackageDescription: Shrink Small Outline; 48 Leads; Body Width 6.1 mm; Pitch 0.5 mm; ComponentLink1Description: Manufacturer Link; ComponentLink1URL: http://www.ti.com/; ComponentLink2Description: Datasheet; ComponentLink2URL: http://www-s.ti.com/sc/ds/sn74lvch16245a.pdf
footprint DGG048 (Shrink Small Outline; 48 Leads; Body Width 6.1 mm; Pitch 0.5 mm)
3D model DGG048 (Shrink Small Outline; 48 Leads; Body Width 6.1 mm; Pitch 0.5 mm)
pins on every part: 4 GND (power) hidden to GND, 7 VCC (power) hidden to VCC, 10 GND (power) hidden to GND, 15 GND (power) hidden to GND, 18 VCC (power) hidden to VCC, 21 GND (power) hidden to GND, 28 GND (power) hidden to GND, 31 VCC (power) hidden to VCC, 34 GND (power) hidden to GND, 39 GND (power) hidden to GND, 42 VCC (power) hidden to VCC, 45 GND (power) hidden to GND
part A pins: 1 DIR (in), 2 B1 (io), 3 B2 (io), 5 B3 (io), 6 B4 (io), 8 B5 (io), 9 B6 (io), 11 B7 (io), 12 B8 (io), 37 A8 (io), 38 A7 (io), 40 A6 (io), 41 A5 (io), 43 A4 (io), 44 A3 (io), 46 A2 (io), 47 A1 (io), 48 ~{OE} (in)
part B pins: 13 B1 (io), 14 B2 (io), 16 B3 (io), 17 B4 (io), 19 B5 (io), 20 B6 (io), 22 B7 (io), 23 B8 (io), 24 DIR (in), 25 ~{OE} (in), 26 A8 (io), 27 A7 (io), 29 A6 (io), 30 A5 (io), 32 A4 (io), 33 A3 (io), 35 A2 (io), 36 A1 (io)

## SN74LVCH16245ADL
designator U?
16-Bit Bus Transceiver with 3-State Outputs; Published: 8-Jun-2000; LatestRevisionDate: 04-Mar-2005; LatestRevisionNote: Stylized 3D Model Added.; DatasheetVersion: Jun-1998; PackageVersion: Dec-2001; PackageReference: DL048; Publisher: Altium Limited; PackageDescription: SSOP; 48 Leads; Body Width 7.5 mm; Pitch 0.635 mm; Code_JEDEC: MO-118-AA; Code_IPC: SSO48; ComponentLink1Description: Manufacturer Link; ComponentLink1URL: http://www.ti.com/; ComponentLink2Description: Datasheet; ComponentLink2URL: http://www-s.ti.com/sc/ds/sn74lvch16245a.pdf
footprint DL048 (SSOP; 48 Leads; Body Width 7.5 mm; Pitch 0.635 mm)
3D model DL048 (SSOP; 48 Leads; Body Width 7.5 mm; Pitch 0.635 mm)
pins on every part: 4 GND (power) hidden to GND, 7 VCC (power) hidden to VCC, 10 GND (power) hidden to GND, 15 GND (power) hidden to GND, 18 VCC (power) hidden to VCC, 21 GND (power) hidden to GND, 28 GND (power) hidden to GND, 31 VCC (power) hidden to VCC, 34 GND (power) hidden to GND, 39 GND (power) hidden to GND, 42 VCC (power) hidden to VCC, 45 GND (power) hidden to GND
part A pins: 1 DIR (in), 2 B1 (io), 3 B2 (io), 5 B3 (io), 6 B4 (io), 8 B5 (io), 9 B6 (io), 11 B7 (io), 12 B8 (io), 37 A8 (io), 38 A7 (io), 40 A6 (io), 41 A5 (io), 43 A4 (io), 44 A3 (io), 46 A2 (io), 47 A1 (io), 48 ~{OE} (in)
part B pins: 13 B1 (io), 14 B2 (io), 16 B3 (io), 17 B4 (io), 19 B5 (io), 20 B6 (io), 22 B7 (io), 23 B8 (io), 24 DIR (in), 25 ~{OE} (in), 26 A8 (io), 27 A7 (io), 29 A6 (io), 30 A5 (io), 32 A4 (io), 33 A3 (io), 35 A2 (io), 36 A1 (io)

## SN74LVCH16543ADGGR
designator U?
16-Bit Registered Transceiver with 3-State Outputs; Published: 8-Jun-2000; LatestRevisionDate: 04-Mar-2005; LatestRevisionNote: Stylized 3D Model Added.; DatasheetVersion: Jun-1998; PackageVersion: Jan-1998; PackageReference: DGG056; Publisher: Altium Limited; PackageDescription: Shrink Small Outline; 56 Leads; Body Width 6.1 mm; Pitch 0.5 mm; ComponentLink1Description: Manufacturer Link; ComponentLink1URL: http://www.ti.com/; ComponentLink2Description: Datasheet; ComponentLink2URL: http://www-s.ti.com/sc/ds/sn74lvch16543a.pdf
footprint DGG056 (Shrink Small Outline; 56 Leads; Body Width 6.1 mm; Pitch 0.5 mm)
3D model DGG056 (Shrink Small Outline; 56 Leads; Body Width 6.1 mm; Pitch 0.5 mm)
pins: 1 1~{OEAB} (in), 2 ~{1LEAB} (in), 3 ~{1CEAB} (in), 4 GND (power), 5 1A1 (io), 6 1A2 (io), 7 VCC (power), 8 1A3 (io), 9 1A4 (io), 10 1A5 (io), 11 GND (power), 12 1A6 (io), 13 1A7 (io), 14 1A8 (io), 15 2A1 (io), 16 2A2 (io), 17 2A3 (io), 18 GND (power), 19 2A4 (io), 20 2A5 (io), 21 2A6 (io), 22 VCC (power), 23 2A7 (io), 24 2A8 (io), 25 GND (power), 26 ~{2CEAB} (in), 27 ~{2LEAB} (in), 28 2~{OEAB} (in), 29 2~{OEBA} (in), 30 ~{2LEBA} (in), 31 ~{2CEBA} (in), 32 GND (power), 33 2B8 (io), 34 2B7 (io), 35 VCC (power), 36 2B6 (io), 37 2B5 (io), 38 2B4 (io), 39 GND (power), 40 2B3 (io), 41 2B2 (io), 42 2B1 (io), 43 1B8 (io), 44 1B7 (io), 45 1B6 (io), 46 GND (power), 47 1B5 (io), 48 1B4 (io), 49 1B3 (io), 50 VCC (power), 51 1B2 (io), 52 1B1 (io), 53 GND (power), 54 ~{1CEBA} (in), 55 ~{1LEBA} (in), 56 1~{OEBA} (in)

## SN74LVCH16543ADL
designator U?
16-Bit Registered Transceiver with 3-State Outputs; Published: 8-Jun-2000; LatestRevisionDate: 04-Mar-2005; LatestRevisionNote: Stylized 3D Model Added.; DatasheetVersion: Jun-1998; PackageVersion: Dec-2001; PackageReference: DL056; Publisher: Altium Limited; PackageDescription: SSOP; 56 Leads; Body Width 7.5 mm; Pitch 0.635 mm; Code_JEDEC: MO-118-AB; Code_IPC: SSO56; ComponentLink1Description: Manufacturer Link; ComponentLink1URL: http://www.ti.com/; ComponentLink2Description: Datasheet; ComponentLink2URL: http://www-s.ti.com/sc/ds/sn74lvch16543a.pdf
footprint DL056 (SSOP; 56 Leads; Body Width 7.5 mm; Pitch 0.635 mm)
3D model DL056 (SSOP; 56 Leads; Body Width 7.5 mm; Pitch 0.635 mm)
pins: 1 1~{OEAB} (in), 2 ~{1LEAB} (in), 3 ~{1CEAB} (in), 4 GND (power), 5 1A1 (io), 6 1A2 (io), 7 VCC (power), 8 1A3 (io), 9 1A4 (io), 10 1A5 (io), 11 GND (power), 12 1A6 (io), 13 1A7 (io), 14 1A8 (io), 15 2A1 (io), 16 2A2 (io), 17 2A3 (io), 18 GND (power), 19 2A4 (io), 20 2A5 (io), 21 2A6 (io), 22 VCC (power), 23 2A7 (io), 24 2A8 (io), 25 GND (power), 26 ~{2CEAB} (in), 27 ~{2LEAB} (in), 28 2~{OEAB} (in), 29 2~{OEBA} (in), 30 ~{2LEBA} (in), 31 ~{2CEBA} (in), 32 GND (power), 33 2B8 (io), 34 2B7 (io), 35 VCC (power), 36 2B6 (io), 37 2B5 (io), 38 2B4 (io), 39 GND (power), 40 2B3 (io), 41 2B2 (io), 42 2B1 (io), 43 1B8 (io), 44 1B7 (io), 45 1B6 (io), 46 GND (power), 47 1B5 (io), 48 1B4 (io), 49 1B3 (io), 50 VCC (power), 51 1B2 (io), 52 1B1 (io), 53 GND (power), 54 ~{1CEBA} (in), 55 ~{1LEBA} (in), 56 1~{OEBA} (in)

## SN74LVCH16646ADGGR
designator U?
16-Bit Bus Transceiver and Register with 3-State Outputs; Published: 8-Jun-2000; LatestRevisionDate: 04-Mar-2005; LatestRevisionNote: Stylized 3D Model Added.; DatasheetVersion: Jun-1998; PackageVersion: Jan-1998; PackageReference: DGG056; Publisher: Altium Limited; PackageDescription: Shrink Small Outline; 56 Leads; Body Width 6.1 mm; Pitch 0.5 mm; ComponentLink1Description: Manufacturer Link; ComponentLink1URL: http://www.ti.com/; ComponentLink2Description: Datasheet; ComponentLink2URL: http://www-s.ti.com/sc/ds/sn74lvch16646a.pdf
footprint DGG056 (Shrink Small Outline; 56 Leads; Body Width 6.1 mm; Pitch 0.5 mm)
3D model DGG056 (Shrink Small Outline; 56 Leads; Body Width 6.1 mm; Pitch 0.5 mm)
pins: 1 1DIR (in), 2 1CLKAB (in), 3 1SAB (in), 4 GND (power), 5 1A1 (io), 6 1A2 (io), 7 VCC (power), 8 1A3 (io), 9 1A4 (io), 10 1A5 (io), 11 GND (power), 12 1A6 (io), 13 1A7 (io), 14 1A8 (io), 15 2A1 (io), 16 2A2 (io), 17 2A3 (io), 18 GND (power), 19 2A4 (io), 20 2A5 (io), 21 2A6 (io), 22 VCC (power), 23 2A7 (io), 24 2A8 (io), 25 GND (power), 26 2SAB (in), 27 2CLKAB (in), 28 2DIR (in), 29 2~{OE} (in), 30 2CLKBA (in), 31 2SBA (in), 32 GND (power), 33 2B8 (io), 34 2B7 (io), 35 VCC (power), 36 2B6 (io), 37 2B5 (io), 38 2B4 (io), 39 GND (power), 40 2B3 (io), 41 2B2 (io), 42 2B1 (io), 43 1B8 (io), 44 1B7 (io), 45 1B6 (io), 46 GND (power), 47 1B5 (io), 48 1B4 (io), 49 1B3 (io), 50 VCC (power), 51 1B2 (io), 52 1B1 (io), 53 GND (power), 54 1SBA (in), 55 1CLKBA (in), 56 1~{OE} (in)

## SN74LVCH16646ADL
designator U?
16-Bit Bus Transceiver and Register with 3-State Outputs; Published: 8-Jun-2000; LatestRevisionDate: 04-Mar-2005; LatestRevisionNote: Stylized 3D Model Added.; DatasheetVersion: Jun-1998; PackageVersion: Dec-2001; PackageReference: DL056; Publisher: Altium Limited; PackageDescription: SSOP; 56 Leads; Body Width 7.5 mm; Pitch 0.635 mm; Code_JEDEC: MO-118-AB; Code_IPC: SSO56; ComponentLink1Description: Manufacturer Link; ComponentLink1URL: http://www.ti.com/; ComponentLink2Description: Datasheet; ComponentLink2URL: http://www-s.ti.com/sc/ds/sn74lvch16646a.pdf
footprint DL056 (SSOP; 56 Leads; Body Width 7.5 mm; Pitch 0.635 mm)
3D model DL056 (SSOP; 56 Leads; Body Width 7.5 mm; Pitch 0.635 mm)
pins: 1 1DIR (in), 2 1CLKAB (in), 3 1SAB (in), 4 GND (power), 5 1A1 (io), 6 1A2 (io), 7 VCC (power), 8 1A3 (io), 9 1A4 (io), 10 1A5 (io), 11 GND (power), 12 1A6 (io), 13 1A7 (io), 14 1A8 (io), 15 2A1 (io), 16 2A2 (io), 17 2A3 (io), 18 GND (power), 19 2A4 (io), 20 2A5 (io), 21 2A6 (io), 22 VCC (power), 23 2A7 (io), 24 2A8 (io), 25 GND (power), 26 2SAB (in), 27 2CLKAB (in), 28 2DIR (in), 29 2~{OE} (in), 30 2CLKBA (in), 31 2SBA (in), 32 GND (power), 33 2B8 (io), 34 2B7 (io), 35 VCC (power), 36 2B6 (io), 37 2B5 (io), 38 2B4 (io), 39 GND (power), 40 2B3 (io), 41 2B2 (io), 42 2B1 (io), 43 1B8 (io), 44 1B7 (io), 45 1B6 (io), 46 GND (power), 47 1B5 (io), 48 1B4 (io), 49 1B3 (io), 50 VCC (power), 51 1B2 (io), 52 1B1 (io), 53 GND (power), 54 1SBA (in), 55 1CLKBA (in), 56 1~{OE} (in)

## SN74LVCH16652ADGGR
designator U?
16-Bit Bus Transceiver and Register with 3-State Outputs; Published: 8-Jun-2000; LatestRevisionDate: 04-Mar-2005; LatestRevisionNote: Stylized 3D Model Added.; DatasheetVersion: Jun-1998; PackageVersion: Jan-1998; PackageReference: DGG056; Publisher: Altium Limited; PackageDescription: Shrink Small Outline; 56 Leads; Body Width 6.1 mm; Pitch 0.5 mm; ComponentLink1Description: Manufacturer Link; ComponentLink1URL: http://www.ti.com/; ComponentLink2Description: Datasheet; ComponentLink2URL: http://www-s.ti.com/sc/ds/sn74lvch16652a.pdf
footprint DGG056 (Shrink Small Outline; 56 Leads; Body Width 6.1 mm; Pitch 0.5 mm)
3D model DGG056 (Shrink Small Outline; 56 Leads; Body Width 6.1 mm; Pitch 0.5 mm)
pins: 1 1OEAB (in), 2 1CLKAB (in), 3 1SAB (in), 4 GND (power), 5 1A1 (io), 6 1A2 (io), 7 VCC (power), 8 1A3 (io), 9 1A4 (io), 10 1A5 (io), 11 GND (power), 12 1A6 (io), 13 1A7 (io), 14 1A8 (io), 15 2A1 (io), 16 2A2 (io), 17 2A3 (io), 18 GND (power), 19 2A4 (io), 20 2A5 (io), 21 2A6 (io), 22 VCC (power), 23 2A7 (io), 24 2A8 (io), 25 GND (power), 26 2SAB (in), 27 2CLKAB (in), 28 2OEAB (in), 29 2~{OEBA} (in), 30 2CLKBA (in), 31 2SBA (in), 32 GND (power), 33 2B8 (io), 34 2B7 (io), 35 VCC (power), 36 2B6 (io), 37 2B5 (io), 38 2B4 (io), 39 GND (power), 40 2B3 (io), 41 2B2 (io), 42 2B1 (io), 43 1B8 (io), 44 1B7 (io), 45 1B6 (io), 46 GND (power), 47 1B5 (io), 48 1B4 (io), 49 1B3 (io), 50 VCC (power), 51 1B2 (io), 52 1B1 (io), 53 GND (power), 54 1SBA (in), 55 1CLKBA (in), 56 1~{OEBA} (in)

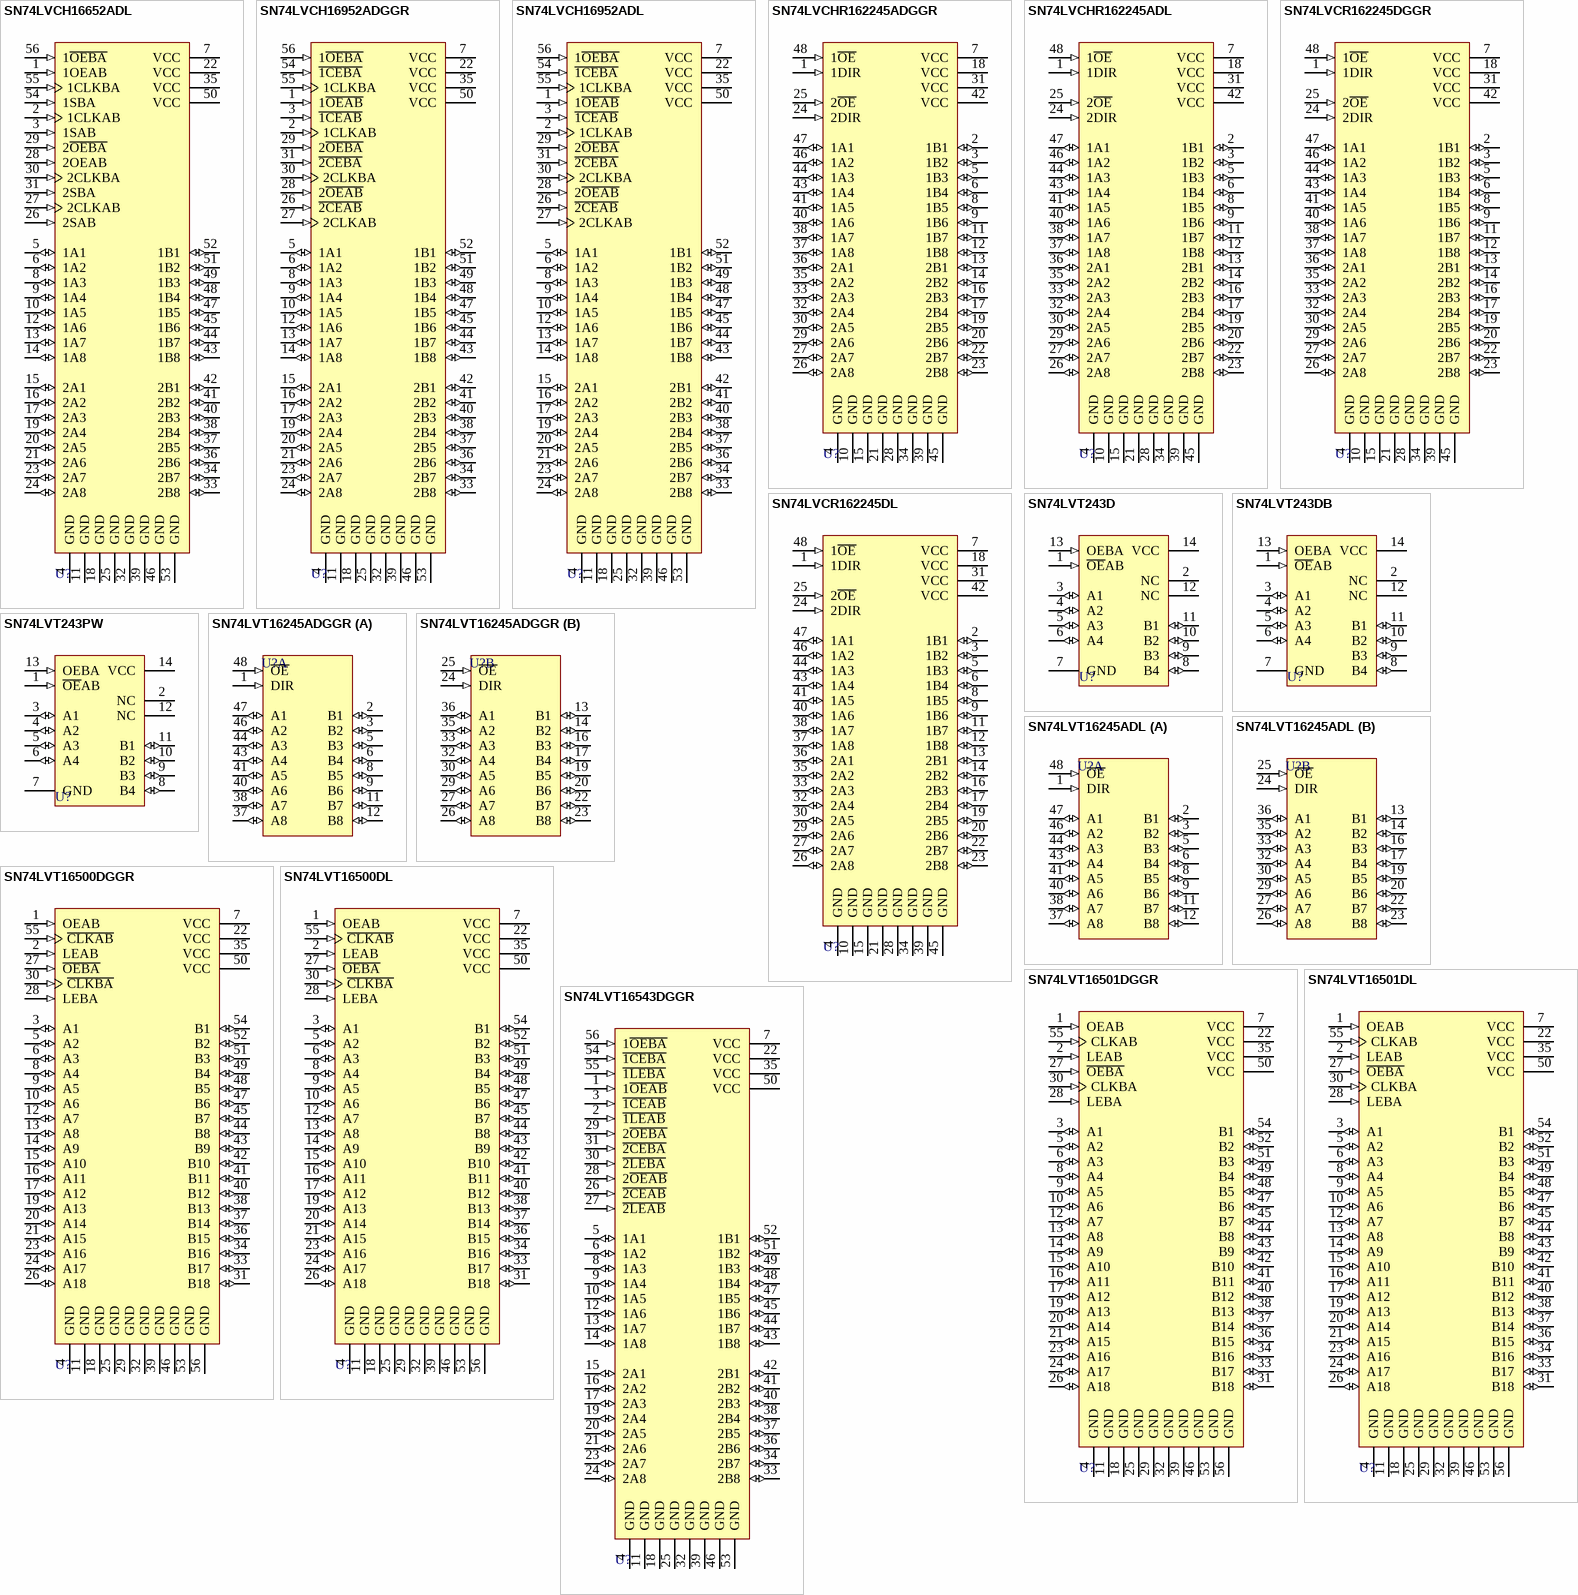
[diagram p27: symbols SN74LVCH16652ADL to SN74LVT16543DGGR]

## SN74LVCH16652ADL
designator U?
16-Bit Bus Transceiver and Register with 3-State Outputs; Published: 8-Jun-2000; LatestRevisionDate: 04-Mar-2005; LatestRevisionNote: Stylized 3D Model Added.; DatasheetVersion: Jun-1998; PackageVersion: Dec-2001; PackageReference: DL056; Publisher: Altium Limited; PackageDescription: SSOP; 56 Leads; Body Width 7.5 mm; Pitch 0.635 mm; Code_JEDEC: MO-118-AB; Code_IPC: SSO56; ComponentLink1Description: Manufacturer Link; ComponentLink1URL: http://www.ti.com/; ComponentLink2Description: Datasheet; ComponentLink2URL: http://www-s.ti.com/sc/ds/sn74lvch16652a.pdf
footprint DL056 (SSOP; 56 Leads; Body Width 7.5 mm; Pitch 0.635 mm)
3D model DL056 (SSOP; 56 Leads; Body Width 7.5 mm; Pitch 0.635 mm)
pins: 1 1OEAB (in), 2 1CLKAB (in), 3 1SAB (in), 4 GND (power), 5 1A1 (io), 6 1A2 (io), 7 VCC (power), 8 1A3 (io), 9 1A4 (io), 10 1A5 (io), 11 GND (power), 12 1A6 (io), 13 1A7 (io), 14 1A8 (io), 15 2A1 (io), 16 2A2 (io), 17 2A3 (io), 18 GND (power), 19 2A4 (io), 20 2A5 (io), 21 2A6 (io), 22 VCC (power), 23 2A7 (io), 24 2A8 (io), 25 GND (power), 26 2SAB (in), 27 2CLKAB (in), 28 2OEAB (in), 29 2~{OEBA} (in), 30 2CLKBA (in), 31 2SBA (in), 32 GND (power), 33 2B8 (io), 34 2B7 (io), 35 VCC (power), 36 2B6 (io), 37 2B5 (io), 38 2B4 (io), 39 GND (power), 40 2B3 (io), 41 2B2 (io), 42 2B1 (io), 43 1B8 (io), 44 1B7 (io), 45 1B6 (io), 46 GND (power), 47 1B5 (io), 48 1B4 (io), 49 1B3 (io), 50 VCC (power), 51 1B2 (io), 52 1B1 (io), 53 GND (power), 54 1SBA (in), 55 1CLKBA (in), 56 1~{OEBA} (in)

## SN74LVCH16952ADGGR
designator U?
16-Bit Registered Transceiver with 3-State Outputs; Published: 8-Jun-2000; LatestRevisionDate: 04-Mar-2005; LatestRevisionNote: Stylized 3D Model Added.; DatasheetVersion: Jun-1998; PackageVersion: Jan-1998; PackageReference: DGG056; Publisher: Altium Limited; PackageDescription: Shrink Small Outline; 56 Leads; Body Width 6.1 mm; Pitch 0.5 mm; ComponentLink1Description: Manufacturer Link; ComponentLink1URL: http://www.ti.com/; ComponentLink2Description: Datasheet; ComponentLink2URL: http://www-s.ti.com/sc/ds/sn74lvch16952a.pdf
footprint DGG056 (Shrink Small Outline; 56 Leads; Body Width 6.1 mm; Pitch 0.5 mm)
3D model DGG056 (Shrink Small Outline; 56 Leads; Body Width 6.1 mm; Pitch 0.5 mm)
pins: 1 1~{OEAB} (in), 2 1CLKAB (in), 3 ~{1CEAB} (in), 4 GND (power), 5 1A1 (io), 6 1A2 (io), 7 VCC (power), 8 1A3 (io), 9 1A4 (io), 10 1A5 (io), 11 GND (power), 12 1A6 (io), 13 1A7 (io), 14 1A8 (io), 15 2A1 (io), 16 2A2 (io), 17 2A3 (io), 18 GND (power), 19 2A4 (io), 20 2A5 (io), 21 2A6 (io), 22 VCC (power), 23 2A7 (io), 24 2A8 (io), 25 GND (power), 26 ~{2CEAB} (in), 27 2CLKAB (in), 28 2~{OEAB} (in), 29 2~{OEBA} (in), 30 2CLKBA (in), 31 ~{2CEBA} (in), 32 GND (power), 33 2B8 (io), 34 2B7 (io), 35 VCC (power), 36 2B6 (io), 37 2B5 (io), 38 2B4 (io), 39 GND (power), 40 2B3 (io), 41 2B2 (io), 42 2B1 (io), 43 1B8 (io), 44 1B7 (io), 45 1B6 (io), 46 GND (power), 47 1B5 (io), 48 1B4 (io), 49 1B3 (io), 50 VCC (power), 51 1B2 (io), 52 1B1 (io), 53 GND (power), 54 ~{1CEBA} (in), 55 1CLKBA (in), 56 1~{OEBA} (in)

## SN74LVCH16952ADL
designator U?
16-Bit Registered Transceiver with 3-State Outputs; Published: 8-Jun-2000; LatestRevisionDate: 04-Mar-2005; LatestRevisionNote: Stylized 3D Model Added.; DatasheetVersion: Jun-1998; PackageVersion: Dec-2001; PackageReference: DL056; Publisher: Altium Limited; PackageDescription: SSOP; 56 Leads; Body Width 7.5 mm; Pitch 0.635 mm; Code_JEDEC: MO-118-AB; Code_IPC: SSO56; ComponentLink1Description: Manufacturer Link; ComponentLink1URL: http://www.ti.com/; ComponentLink2Description: Datasheet; ComponentLink2URL: http://www-s.ti.com/sc/ds/sn74lvch16952a.pdf
footprint DL056 (SSOP; 56 Leads; Body Width 7.5 mm; Pitch 0.635 mm)
3D model DL056 (SSOP; 56 Leads; Body Width 7.5 mm; Pitch 0.635 mm)
pins: 1 1~{OEAB} (in), 2 1CLKAB (in), 3 ~{1CEAB} (in), 4 GND (power), 5 1A1 (io), 6 1A2 (io), 7 VCC (power), 8 1A3 (io), 9 1A4 (io), 10 1A5 (io), 11 GND (power), 12 1A6 (io), 13 1A7 (io), 14 1A8 (io), 15 2A1 (io), 16 2A2 (io), 17 2A3 (io), 18 GND (power), 19 2A4 (io), 20 2A5 (io), 21 2A6 (io), 22 VCC (power), 23 2A7 (io), 24 2A8 (io), 25 GND (power), 26 ~{2CEAB} (in), 27 2CLKAB (in), 28 2~{OEAB} (in), 29 2~{OEBA} (in), 30 2CLKBA (in), 31 ~{2CEBA} (in), 32 GND (power), 33 2B8 (io), 34 2B7 (io), 35 VCC (power), 36 2B6 (io), 37 2B5 (io), 38 2B4 (io), 39 GND (power), 40 2B3 (io), 41 2B2 (io), 42 2B1 (io), 43 1B8 (io), 44 1B7 (io), 45 1B6 (io), 46 GND (power), 47 1B5 (io), 48 1B4 (io), 49 1B3 (io), 50 VCC (power), 51 1B2 (io), 52 1B1 (io), 53 GND (power), 54 ~{1CEBA} (in), 55 1CLKBA (in), 56 1~{OEBA} (in)

## SN74LVCHR162245ADGGR
designator U?
16-Bit Bus Transceiver with 3-State Outputs; Published: 8-Jun-2000; LatestRevisionDate: 04-Mar-2005; LatestRevisionNote: Stylized 3D Model Added.; DatasheetVersion: Jun-1998; PackageVersion: Jan-1998; PackageReference: DGG048; Publisher: Altium Limited; PackageDescription: Shrink Small Outline; 48 Leads; Body Width 6.1 mm; Pitch 0.5 mm; ComponentLink1Description: Manufacturer Link; ComponentLink1URL: http://www.ti.com/
footprint DGG048 (Shrink Small Outline; 48 Leads; Body Width 6.1 mm; Pitch 0.5 mm)
3D model DGG048 (Shrink Small Outline; 48 Leads; Body Width 6.1 mm; Pitch 0.5 mm)
pins: 1 1DIR (in), 2 1B1 (io), 3 1B2 (io), 4 GND (power), 5 1B3 (io), 6 1B4 (io), 7 VCC (power), 8 1B5 (io), 9 1B6 (io), 10 GND (power), 11 1B7 (io), 12 1B8 (io), 13 2B1 (io), 14 2B2 (io), 15 GND (power), 16 2B3 (io), 17 2B4 (io), 18 VCC (power), 19 2B5 (io), 20 2B6 (io), 21 GND (power), 22 2B7 (io), 23 2B8 (io), 24 2DIR (in), 25 2~{OE} (in), 26 2A8 (io), 27 2A7 (io), 28 GND (power), 29 2A6 (io), 30 2A5 (io), 31 VCC (power), 32 2A4 (io), 33 2A3 (io), 34 GND (power), 35 2A2 (io), 36 2A1 (io), 37 1A8 (io), 38 1A7 (io), 39 GND (power), 40 1A6 (io), 41 1A5 (io), 42 VCC (power), 43 1A4 (io), 44 1A3 (io), 45 GND (power), 46 1A2 (io), 47 1A1 (io), 48 1~{OE} (in)

## SN74LVCHR162245ADL
designator U?
16-Bit Bus Transceiver with 3-State Outputs; Published: 8-Jun-2000; LatestRevisionDate: 04-Mar-2005; LatestRevisionNote: Stylized 3D Model Added.; DatasheetVersion: Jun-1998; PackageVersion: Dec-2001; PackageReference: DL048; Publisher: Altium Limited; PackageDescription: SSOP; 48 Leads; Body Width 7.5 mm; Pitch 0.635 mm; Code_JEDEC: MO-118-AA; Code_IPC: SSO48; ComponentLink1Description: Manufacturer Link; ComponentLink1URL: http://www.ti.com/
footprint DL048 (SSOP; 48 Leads; Body Width 7.5 mm; Pitch 0.635 mm)
3D model DL048 (SSOP; 48 Leads; Body Width 7.5 mm; Pitch 0.635 mm)
pins: 1 1DIR (in), 2 1B1 (io), 3 1B2 (io), 4 GND (power), 5 1B3 (io), 6 1B4 (io), 7 VCC (power), 8 1B5 (io), 9 1B6 (io), 10 GND (power), 11 1B7 (io), 12 1B8 (io), 13 2B1 (io), 14 2B2 (io), 15 GND (power), 16 2B3 (io), 17 2B4 (io), 18 VCC (power), 19 2B5 (io), 20 2B6 (io), 21 GND (power), 22 2B7 (io), 23 2B8 (io), 24 2DIR (in), 25 2~{OE} (in), 26 2A8 (io), 27 2A7 (io), 28 GND (power), 29 2A6 (io), 30 2A5 (io), 31 VCC (power), 32 2A4 (io), 33 2A3 (io), 34 GND (power), 35 2A2 (io), 36 2A1 (io), 37 1A8 (io), 38 1A7 (io), 39 GND (power), 40 1A6 (io), 41 1A5 (io), 42 VCC (power), 43 1A4 (io), 44 1A3 (io), 45 GND (power), 46 1A2 (io), 47 1A1 (io), 48 1~{OE} (in)

## SN74LVCR162245DGGR
designator U?
16-Bit Bus Transceiver with 3-State Outputs; Published: 8-Jun-2000; LatestRevisionDate: 04-Mar-2005; LatestRevisionNote: Stylized 3D Model Added.; DatasheetVersion: Aug-1995; PackageVersion: Jan-1998; PackageReference: DGG048; Publisher: Altium Limited; PackageDescription: Shrink Small Outline; 48 Leads; Body Width 6.1 mm; Pitch 0.5 mm; ComponentLink1Description: Manufacturer Link; ComponentLink1URL: http://www.ti.com/; ComponentLink2Description: Datasheet; ComponentLink2URL: http://www-s.ti.com/sc/ds/sn74lvcr162245.pdf
footprint DGG048 (Shrink Small Outline; 48 Leads; Body Width 6.1 mm; Pitch 0.5 mm)
3D model DGG048 (Shrink Small Outline; 48 Leads; Body Width 6.1 mm; Pitch 0.5 mm)
pins: 1 1DIR (in), 2 1B1 (io), 3 1B2 (io), 4 GND (power), 5 1B3 (io), 6 1B4 (io), 7 VCC (power), 8 1B5 (io), 9 1B6 (io), 10 GND (power), 11 1B7 (io), 12 1B8 (io), 13 2B1 (io), 14 2B2 (io), 15 GND (power), 16 2B3 (io), 17 2B4 (io), 18 VCC (power), 19 2B5 (io), 20 2B6 (io), 21 GND (power), 22 2B7 (io), 23 2B8 (io), 24 2DIR (in), 25 2~{OE} (in), 26 2A8 (io), 27 2A7 (io), 28 GND (power), 29 2A6 (io), 30 2A5 (io), 31 VCC (power), 32 2A4 (io), 33 2A3 (io), 34 GND (power), 35 2A2 (io), 36 2A1 (io), 37 1A8 (io), 38 1A7 (io), 39 GND (power), 40 1A6 (io), 41 1A5 (io), 42 VCC (power), 43 1A4 (io), 44 1A3 (io), 45 GND (power), 46 1A2 (io), 47 1A1 (io), 48 1~{OE} (in)

## SN74LVCR162245DL
designator U?
16-Bit Bus Transceiver with 3-State Outputs; Published: 8-Jun-2000; LatestRevisionDate: 04-Mar-2005; LatestRevisionNote: Stylized 3D Model Added.; DatasheetVersion: Aug-1995; PackageVersion: Dec-2001; PackageReference: DL048; Publisher: Altium Limited; PackageDescription: SSOP; 48 Leads; Body Width 7.5 mm; Pitch 0.635 mm; Code_JEDEC: MO-118-AA; Code_IPC: SSO48; ComponentLink1Description: Manufacturer Link; ComponentLink1URL: http://www.ti.com/; ComponentLink2Description: Datasheet; ComponentLink2URL: http://www-s.ti.com/sc/ds/sn74lvcr162245.pdf
footprint DL048 (SSOP; 48 Leads; Body Width 7.5 mm; Pitch 0.635 mm)
3D model DL048 (SSOP; 48 Leads; Body Width 7.5 mm; Pitch 0.635 mm)
pins: 1 1DIR (in), 2 1B1 (io), 3 1B2 (io), 4 GND (power), 5 1B3 (io), 6 1B4 (io), 7 VCC (power), 8 1B5 (io), 9 1B6 (io), 10 GND (power), 11 1B7 (io), 12 1B8 (io), 13 2B1 (io), 14 2B2 (io), 15 GND (power), 16 2B3 (io), 17 2B4 (io), 18 VCC (power), 19 2B5 (io), 20 2B6 (io), 21 GND (power), 22 2B7 (io), 23 2B8 (io), 24 2DIR (in), 25 2~{OE} (in), 26 2A8 (io), 27 2A7 (io), 28 GND (power), 29 2A6 (io), 30 2A5 (io), 31 VCC (power), 32 2A4 (io), 33 2A3 (io), 34 GND (power), 35 2A2 (io), 36 2A1 (io), 37 1A8 (io), 38 1A7 (io), 39 GND (power), 40 1A6 (io), 41 1A5 (io), 42 VCC (power), 43 1A4 (io), 44 1A3 (io), 45 GND (power), 46 1A2 (io), 47 1A1 (io), 48 1~{OE} (in)

## SN74LVT243D
designator U?
3.3-V ABT Quadruple Bus Transceiver with 3-State Outputs; Note: Pins 2 and 12 are not connected; Published: 8-Jun-2000; LatestRevisionDate: 13-Apr-2006; LatestRevisionNote: IPC-7351 Footprint Added.; DatasheetVersion: Mar-1994; PackageVersion: Jan-1998; PackageReference: D014; Publisher: Altium Limited; PackageDescription: 14-Pin Small Outline Integrated Circuit 1.27 mm Pitch; Code_IPC: SOIC127P600-14; ComponentLink1Description: Manufacturer Link; ComponentLink1URL: http://www.ti.com/
footprint D014_N (SOIC, 14-Leads, Body 8.7x3.9mm, Pitch 1.27mm, IPC Medium Density)
footprint D014_L (SOIC, 14-Leads, Body 8.7x3.9mm, Pitch 1.27mm, IPC High Density)
footprint D014_M (SOIC, 14-Leads, Body 8.7x3.9mm, Pitch 1.27mm, IPC Low Density)
3D model D014 (14-Pin Small Outline Integrated Circuit 1.27 mm Pitch)
signal-integrity model SN74LVT243D
pins: 1 ~{OE}AB (in), 2 NC, 3 A1 (io), 4 A2 (io), 5 A3 (io), 6 A4 (io), 7 GND (power), 8 B4 (io), 9 B3 (io), 10 B2 (io), 11 B1 (io), 12 NC, 13 OEBA (in), 14 VCC (power)

## SN74LVT243DB
designator U?
3.3-V ABT Quadruple Bus Transceiver with 3-State Outputs; Note: Pins 2 and 12 are not connected; Published: 8-Jun-2000; LatestRevisionDate: 04-Mar-2005; LatestRevisionNote: Stylized 3D Model Added.; DatasheetVersion: Mar-1994; PackageVersion: May-1999; PackageReference: DB014; Publisher: Altium Limited; PackageDescription: SSOP, Plastic; 14 Leads; Body Width 5.3 mm; Pitch 0.65 mm; Code_JEDEC: MO-150-AB; ComponentLink1Description: Manufacturer Link; ComponentLink1URL: http://www.ti.com/
footprint DB014 (SSOP, Plastic; 14 Leads; Body Width 5.3 mm; Pitch 0.65 mm)
3D model DB014 (SSOP, Plastic; 14 Leads; Body Width 5.3 mm; Pitch 0.65 mm)
signal-integrity model SN74LVT243DB
pins: 1 ~{OE}AB (in), 2 NC, 3 A1 (io), 4 A2 (io), 5 A3 (io), 6 A4 (io), 7 GND (power), 8 B4 (io), 9 B3 (io), 10 B2 (io), 11 B1 (io), 12 NC, 13 OEBA (in), 14 VCC (power)

## SN74LVT243PW
designator U?
3.3-V ABT Quadruple Bus Transceiver with 3-State Outputs; Note: Pins 2 and 12 are not connected; Published: 8-Jun-2000; LatestRevisionDate: 04-Mar-2005; LatestRevisionNote: Stylized 3D Model Added.; DatasheetVersion: Mar-1994; PackageVersion: Feb-1999; PackageReference: PW014; Publisher: Altium Limited; PackageDescription: Shrink Small Outline; 14 Leads; Body Width 4.4 mm; Pitch 0.65 mm; ComponentLink1Description: Manufacturer Link; ComponentLink1URL: http://www.ti.com/
footprint PW014 (Shrink Small Outline; 14 Leads; Body Width 4.4 mm; Pitch 0.65 mm)
3D model PW014 (Shrink Small Outline; 14 Leads; Body Width 4.4 mm; Pitch 0.65 mm)
signal-integrity model SN74LVT243PW
pins: 1 ~{OE}AB (in), 2 NC, 3 A1 (io), 4 A2 (io), 5 A3 (io), 6 A4 (io), 7 GND (power), 8 B4 (io), 9 B3 (io), 10 B2 (io), 11 B1 (io), 12 NC, 13 OEBA (in), 14 VCC (power)

## SN74LVT16245ADGGR
designator U?
3.3-V ABT 16-Bit Bus Transceiver with 3-State Outputs; Published: 8-Jun-2000; LatestRevisionDate: 04-Mar-2005; LatestRevisionNote: Stylized 3D Model Added.; DatasheetVersion: Jan-1996; PackageVersion: Jan-1998; PackageReference: DGG048; Publisher: Altium Limited; PackageDescription: Shrink Small Outline; 48 Leads; Body Width 6.1 mm; Pitch 0.5 mm; ComponentLink1Description: Manufacturer Link; ComponentLink1URL: http://www.ti.com/; ComponentLink2Description: URL Link1; ComponentLink2URL: http://focus.ti.com/docs/prod/folders/print/sn74lvt16245a.html
footprint DGG048 (Shrink Small Outline; 48 Leads; Body Width 6.1 mm; Pitch 0.5 mm)
3D model DGG048 (Shrink Small Outline; 48 Leads; Body Width 6.1 mm; Pitch 0.5 mm)
signal-integrity model SN74LVT16245ADGGR
pins on every part: 4 GND (power) hidden to GND, 7 VCC (power) hidden to VCC, 10 GND (power) hidden to GND, 15 GND (power) hidden to GND, 18 VCC (power) hidden to VCC, 21 GND (power) hidden to GND, 28 GND (power) hidden to GND, 31 VCC (power) hidden to VCC, 34 GND (power) hidden to GND, 39 GND (power) hidden to GND, 42 VCC (power) hidden to VCC, 45 GND (power) hidden to GND
part A pins: 1 DIR (in), 2 B1 (io), 3 B2 (io), 5 B3 (io), 6 B4 (io), 8 B5 (io), 9 B6 (io), 11 B7 (io), 12 B8 (io), 37 A8 (io), 38 A7 (io), 40 A6 (io), 41 A5 (io), 43 A4 (io), 44 A3 (io), 46 A2 (io), 47 A1 (io), 48 ~{OE} (in)
part B pins: 13 B1 (io), 14 B2 (io), 16 B3 (io), 17 B4 (io), 19 B5 (io), 20 B6 (io), 22 B7 (io), 23 B8 (io), 24 DIR (in), 25 ~{OE} (in), 26 A8 (io), 27 A7 (io), 29 A6 (io), 30 A5 (io), 32 A4 (io), 33 A3 (io), 35 A2 (io), 36 A1 (io)

## SN74LVT16245ADL
designator U?
3.3-V ABT 16-Bit Bus Transceiver with 3-State Outputs; Published: 8-Jun-2000; LatestRevisionDate: 04-Mar-2005; LatestRevisionNote: Stylized 3D Model Added.; DatasheetVersion: Jan-1996; PackageVersion: Dec-2001; PackageReference: DL048; Publisher: Altium Limited; PackageDescription: SSOP; 48 Leads; Body Width 7.5 mm; Pitch 0.635 mm; Code_JEDEC: MO-118-AA; Code_IPC: SSO48; ComponentLink1Description: Manufacturer Link; ComponentLink1URL: http://www.ti.com/; ComponentLink2Description: URL Link1; ComponentLink2URL: http://focus.ti.com/docs/prod/folders/print/sn74lvt16245a.html
footprint DL048 (SSOP; 48 Leads; Body Width 7.5 mm; Pitch 0.635 mm)
3D model DL048 (SSOP; 48 Leads; Body Width 7.5 mm; Pitch 0.635 mm)
signal-integrity model SN74LVT16245ADL
pins on every part: 4 GND (power) hidden to GND, 7 VCC (power) hidden to VCC, 10 GND (power) hidden to GND, 15 GND (power) hidden to GND, 18 VCC (power) hidden to VCC, 21 GND (power) hidden to GND, 28 GND (power) hidden to GND, 31 VCC (power) hidden to VCC, 34 GND (power) hidden to GND, 39 GND (power) hidden to GND, 42 VCC (power) hidden to VCC, 45 GND (power) hidden to GND
part A pins: 1 DIR (in), 2 B1 (io), 3 B2 (io), 5 B3 (io), 6 B4 (io), 8 B5 (io), 9 B6 (io), 11 B7 (io), 12 B8 (io), 37 A8 (io), 38 A7 (io), 40 A6 (io), 41 A5 (io), 43 A4 (io), 44 A3 (io), 46 A2 (io), 47 A1 (io), 48 ~{OE} (in)
part B pins: 13 B1 (io), 14 B2 (io), 16 B3 (io), 17 B4 (io), 19 B5 (io), 20 B6 (io), 22 B7 (io), 23 B8 (io), 24 DIR (in), 25 ~{OE} (in), 26 A8 (io), 27 A7 (io), 29 A6 (io), 30 A5 (io), 32 A4 (io), 33 A3 (io), 35 A2 (io), 36 A1 (io)